# Altium schematic symbol library ACS712.SchLib: 1 symbol
Pins are listed as number, name and electrical type; pins without a type are passive.

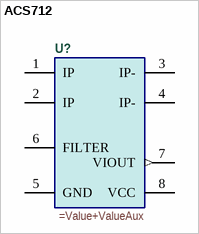
[diagram p0: symbol ACS712]

## ACS712
designator U?
=Description
pins: 1 IP (power), 2 IP (power), 3 IP- (power), 4 IP- (power), 5 GND (power), 6 FILTER, 7 VIOUT (out), 8 VCC (power)